# Altium footprint library 470.PcbLib: 1 footprints
Each footprint in its own frame and in the unit in brackets; x right, y up, seen from the top. Pads: shape width x height; smd on the part's side, far side on the other; paste and mask are expansions set on the pad; w line width, h text height; cw(c..) or ccw(c..) is an arc to the next point about the centre after c.
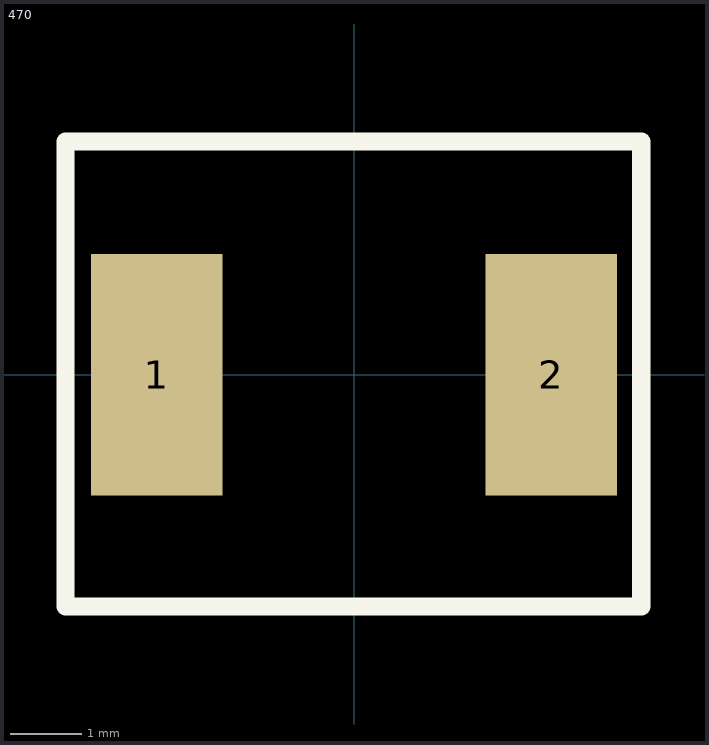
[diagram p0: the footprint, top view; thin cyan lines are the x and y axes]

## 470 [mm]
pads (2):
  rect 1.85x3.4 smd mask+0: 1(-2.775,0) 2(2.775,0)
Top Overlay:
  lines w0.254: -4.06,-3.26 -4.06,3.28 3.66,3.28 4.04,3.28 4.04,2.9 4.04,-3.26 -4.06,-3.26
3D body "SRP6540.stp": height 3.97, standoff -0.02, extent -3.594,-3.251 3.594,3.251